# EAGLE library part CON_FPC05-20_XF2F-2035 (library akita)
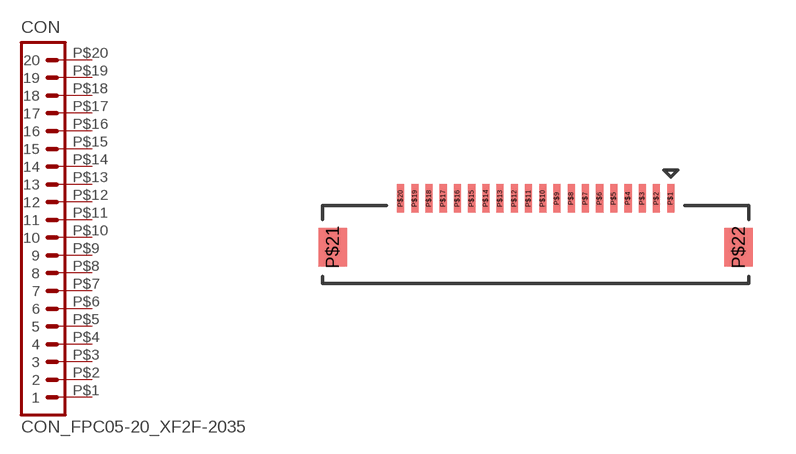
[diagram p95: symbol with the pads of CON-FPC05-20; footprint CON-FPC05-20]

Designator prefix CON

## CON_FPC05-20_XF2F-2035  [CON-FPC05-20]
P$1  1  pas
P$2  2  pas
P$3  3  pas
P$4  4  pas
P$5  5  pas
P$6  6  pas
P$7  7  pas
P$8  8  pas
P$9  9  pas
P$10  10  pas
P$11  11  pas
P$12  12  pas
P$13  13  pas
P$14  14  pas
P$15  15  pas
P$16  16  pas
P$17  17  pas
P$18  18  pas
P$19  19  pas
P$20  20  pas

## Footprint CON-FPC05-20 (pad centres in mm)
smd 0.25 x 1: P$1 4.75,0; P$2 4.25,0; P$3 3.75,0; P$4 3.25,0; P$5 2.75,0; P$6 2.25,0; P$7 1.75,0; P$8 1.25,0; P$9 0.75,0; P$10 0.25,0; P$11 -0.25,0; P$12 -0.75,0; P$13 -1.25,0; P$14 -1.75,0; P$15 -2.25,0; P$16 -2.75,0; P$17 -3.25,0; P$18 -3.75,0; P$19 -4.25,0; P$20 -4.75,0
smd 1 x 1.34: P$21 -7.14,-1.72; P$22 7.14,-1.72